# Altium schematic symbol library 61300311121.SchLib: 2 symbols
Pins are listed as number, name and electrical type; pins without a type are passive.

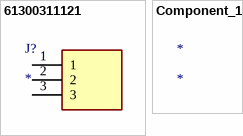
[diagram p0: symbols 61300311121 to Component_1]

## 61300311121
designator J?
Connector; Manufacturer_Name: Wurth Elektronik; Manufacturer_Part_Number: 61300311121; Description: HEADER 3 POSITION 2.54MM 0.100" VERTICLE UNSHROUDED BREAKAWAY THROUGH-HOLE; Datasheet Link: http://katalog.we-online.de/em/datasheet/6130xx11121.pdf; Height: 8.69mm; Mouser Part Number: 710-61300311121; Mouser Price/Stock: https://www.mouser.co.uk/ProductDetail/Wurth-Elektronik/61300311121?qs=PhR8RmCirEYxRWFJzNKsUw%3D%3D
footprint HDRV3W64P0X254_1X3_762X254X869P
pins: 1, 2, 3

## Component_1
designator *